# Altium schematic symbol library CAP-POLAR.SchLib: 1 symbol
Pins are listed as number, name and electrical type; pins without a type are passive.

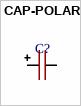
[diagram p0: symbol CAP-POLAR]

## CAP-POLAR
designator C?
footprint CAP-TAN-B
footprint CAP-TAN-C
footprint CAP-TAN-B2
footprint CAPPOL-12x25
footprint CAP-TAN-R
footprint CAP-TAN-X
footprint CAP-TAN-A
footprint CAPPOL-30x35
footprint CAPPOL-18x40
footprint CAP-TAN-D
footprint CAPPOL8x12
footprint CAPPOL_SMD_SIZE_B
footprint CAPPOL_SMD_SIZE_C
footprint CAPPOL_SMD_SIZE_D
footprint CAPPOL_SMD_SIZE_E
footprint CAPPOL_SMD_SIZE_F
footprint CAPPOL_SMD_SIZE_G
footprint CAPPOL-100x35
footprint CAPPOL-65x35
pins: 1 +, 2 -